# Altium footprint library Resistor_THT.PcbLib: 104 footprints (part 2 of 7)
Each footprint in its own frame and in the unit in brackets; x right, y up, seen from the top. Pads: shape width x height; smd on the part's side, far side on the other; paste and mask are expansions set on the pad; w line width, h text height; cw(c..) or ccw(c..) is an arc to the next point about the centre after c.
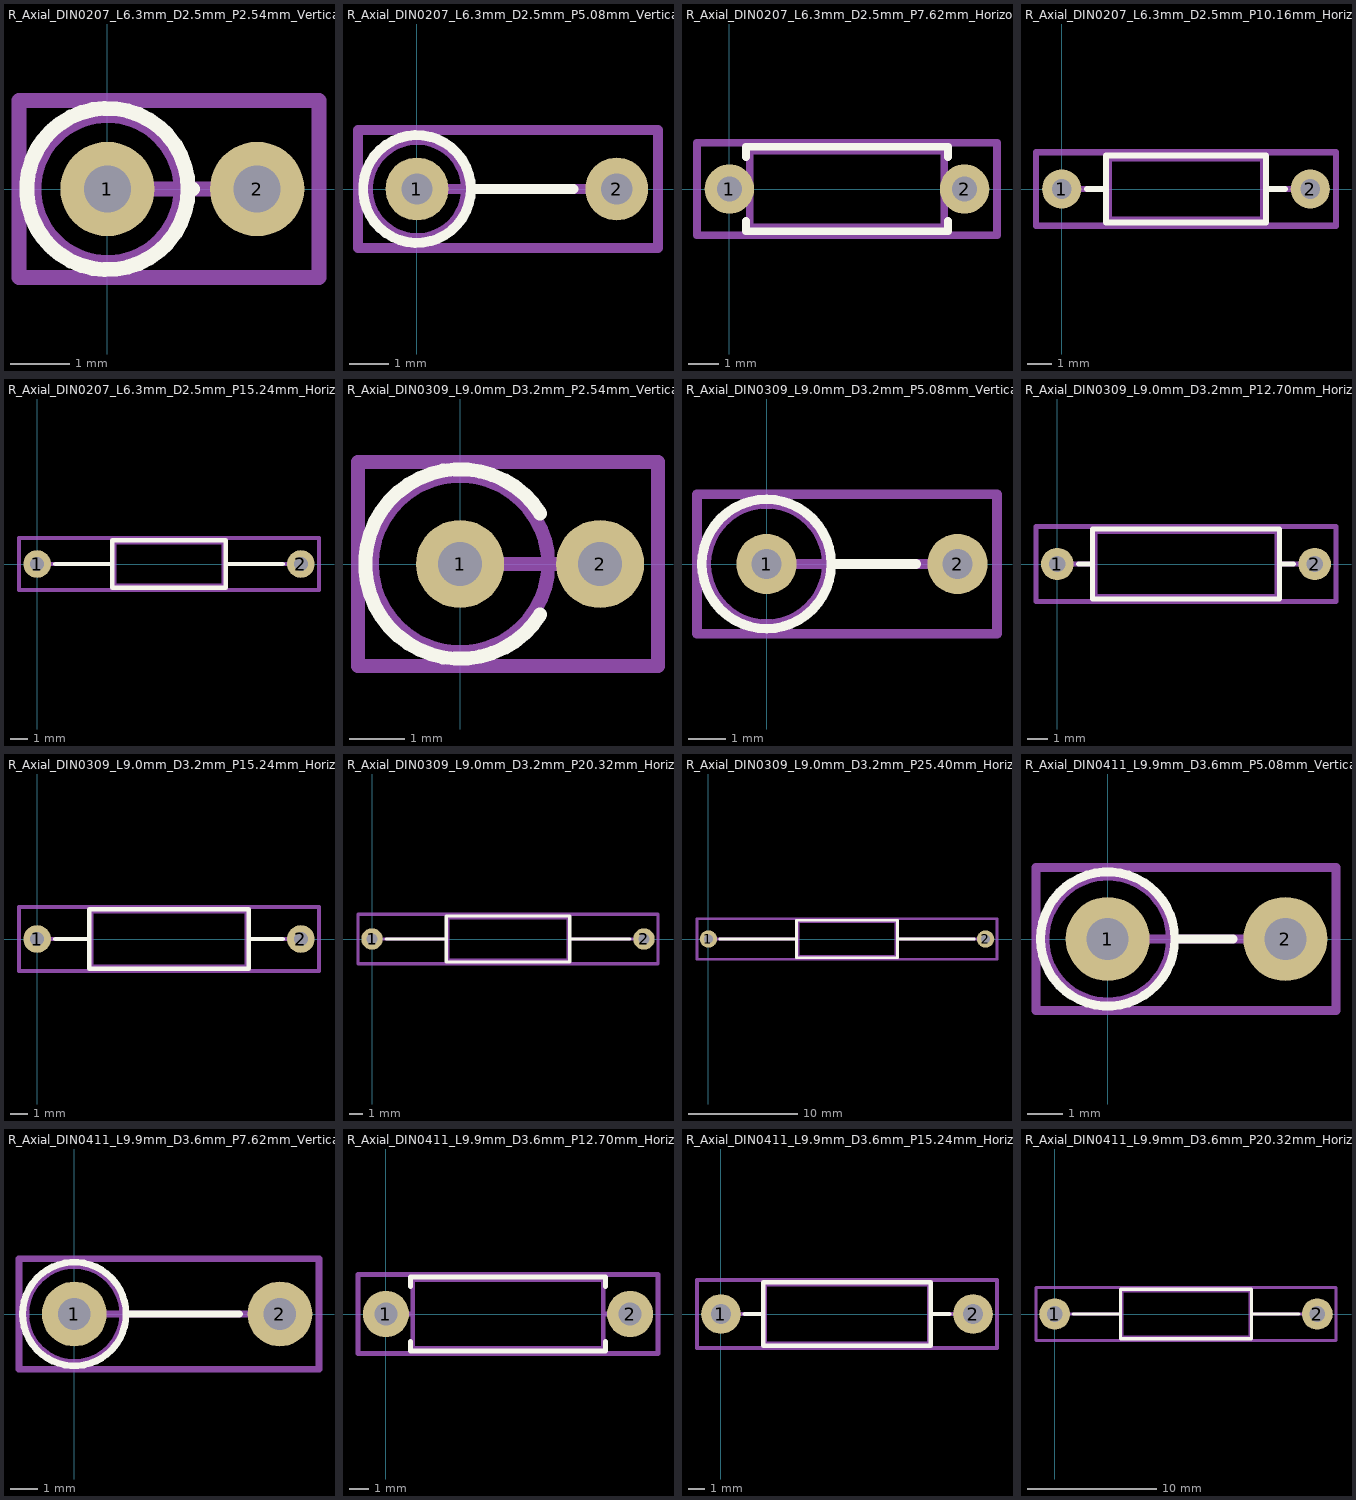
[diagram p1: the footprints below, top view; thin cyan lines are the x and y axes]

## R_Axial_DIN0207_L6.3mm_D2.5mm_P2.54mm_Vertical [mm]
pads (2):
  round 1.6 hole 0.8: 1(0,0) 2(2.54,0)
F.SilkS:
  circle w0.254: c0,0 r1.37
  lines w0.254: 1.37,0 1.44,0
F.Fab:
  circle w0.254: c0,0 r1.25
  lines w0.254: 0,0 2.54,0
  text "'.Designator'" at -2.777,1.53 h1
F.CrtYd:
  lines w0.254: -1.5,-1.5 -1.5,1.5 3.59,1.5 3.59,-1.5 -1.5,-1.5
3D body "R_Axial_DIN0207_L6.3mm_D2.5mm_P2.54mm_Vertical.step": height 9.5, standoff -3, extent -1.24,-1.248 2.838,1.248

## R_Axial_DIN0207_L6.3mm_D2.5mm_P5.08mm_Vertical [mm]
pads (2):
  round 1.6 hole 0.8: 1(0,0) 2(5.08,0)
F.SilkS:
  circle w0.254: c0,0 r1.37
  lines w0.254: 1.37,0 3.98,0
F.Fab:
  circle w0.254: c0,0 r1.25
  lines w0.254: 0,0 5.08,0
  text "'.Designator'" at -1.507,1.53 h1
F.CrtYd:
  lines w0.254: -1.5,-1.5 -1.5,1.5 6.13,1.5 6.13,-1.5 -1.5,-1.5
3D body "R_Axial_DIN0207_L6.3mm_D2.5mm_P5.08mm_Vertical.step": height 9.5, standoff -3, extent -1.24,-1.248 5.378,1.248

## R_Axial_DIN0207_L6.3mm_D2.5mm_P7.62mm_Horizontal [mm]
pads (2):
  round 1.6 hole 0.8: 1(0,0) 2(7.62,0)
F.SilkS:
  lines w0.254: 0.54,-1.04 0.54,-1.37 7.08,-1.37 7.08,-1.04 ; 0.54,1.04 0.54,1.37 7.08,1.37 7.08,1.04
F.Fab:
  lines w0.254: 0,0 0.66,0 ; 6.96,0 7.62,0 ; 0.66,-1.25 0.66,1.25 6.96,1.25 6.96,-1.25 0.66,-1.25
  text "'.Designator'" at -0.237,-0.84 h1
F.CrtYd:
  lines w0.254: -1.05,-1.5 -1.05,1.5 8.67,1.5 8.67,-1.5 -1.05,-1.5
3D body "R_Axial_DIN0207_L6.3mm_D2.5mm_P7.62mm_Horizontal.step": height 2.5, standoff -3, extent -0.298,-1.24 7.918,1.25

## R_Axial_DIN0207_L6.3mm_D2.5mm_P10.16mm_Horizontal [mm]
pads (2):
  round 1.6 hole 0.8: 1(0,0) 2(10.16,0)
F.SilkS:
  lines w0.254: 1.04,0 1.81,0 ; 8.35,0 9.12,0 ; 1.81,-1.37 1.81,1.37 8.35,1.37 8.35,-1.37 1.81,-1.37
F.Fab:
  lines w0.254: 0,0 1.93,0 ; 8.23,0 10.16,0 ; 1.93,-1.25 1.93,1.25 8.23,1.25 8.23,-1.25 1.93,-1.25
  text "'.Designator'" at 1.033,-0.84 h1
F.CrtYd:
  lines w0.254: -1.05,-1.5 -1.05,1.5 11.21,1.5 11.21,-1.5 -1.05,-1.5
3D body "R_Axial_DIN0207_L6.3mm_D2.5mm_P10.16mm_Horizontal.step": height 2.5, standoff -3, extent -0.298,-1.24 10.458,1.25

## R_Axial_DIN0207_L6.3mm_D2.5mm_P15.24mm_Horizontal [mm]
pads (2):
  round 1.6 hole 0.8: 1(0,0) 2(15.24,0)
F.SilkS:
  lines w0.254: 1.04,0 4.35,0 ; 10.89,0 14.2,0 ; 4.35,-1.37 4.35,1.37 10.89,1.37 10.89,-1.37 4.35,-1.37
F.Fab:
  lines w0.254: 0,0 4.47,0 ; 10.77,0 15.24,0 ; 4.47,-1.25 4.47,1.25 10.77,1.25 10.77,-1.25 4.47,-1.25
  text "'.Designator'" at 3.573,-0.84 h1
F.CrtYd:
  lines w0.254: -1.05,-1.5 -1.05,1.5 16.29,1.5 16.29,-1.5 -1.05,-1.5
3D body "R_Axial_DIN0207_L6.3mm_D2.5mm_P15.24mm_Horizontal.step": height 2.5, standoff -3, extent -0.298,-1.24 15.538,1.25

## R_Axial_DIN0309_L9.0mm_D3.2mm_P2.54mm_Vertical [mm]
pads (2):
  round 1.6 hole 0.8: 1(0,0) 2(2.54,0)
F.SilkS:
  lines w0.254: 1.453,-0.92 cw(c0,0) 1.453,0.92
F.Fab:
  circle w0.254: c0,0 r1.6
  lines w0.254: 0,0 2.54,0
  text "'.Designator'" at -2.777,1.88 h1
F.CrtYd:
  lines w0.254: -1.85,-1.85 -1.85,1.85 3.59,1.85 3.59,-1.85 -1.85,-1.85
3D body "R_Axial_DIN0309_L9.0mm_D3.2mm_P2.54mm_Vertical.step": height 12.4, standoff -3, extent -1.6,-1.597 2.887,1.597

## R_Axial_DIN0309_L9.0mm_D3.2mm_P5.08mm_Vertical [mm]
pads (2):
  round 1.6 hole 0.8: 1(0,0) 2(5.08,0)
F.SilkS:
  circle w0.254: c0,0 r1.72
  lines w0.254: 1.72,0 3.98,0
F.Fab:
  circle w0.254: c0,0 r1.6
  lines w0.254: 0,0 5.08,0
  text "'.Designator'" at -1.507,1.88 h1
F.CrtYd:
  lines w0.254: -1.85,-1.85 -1.85,1.85 6.13,1.85 6.13,-1.85 -1.85,-1.85
3D body "R_Axial_DIN0309_L9.0mm_D3.2mm_P5.08mm_Vertical.step": height 12.4, standoff -3, extent -1.6,-1.597 5.427,1.597

## R_Axial_DIN0309_L9.0mm_D3.2mm_P12.70mm_Horizontal [mm]
pads (2):
  round 1.6 hole 0.8: 1(0,0) 2(12.7,0)
F.SilkS:
  lines w0.254: 1.04,0 1.73,0 ; 10.97,0 11.66,0 ; 1.73,-1.72 1.73,1.72 10.97,1.72 10.97,-1.72 1.73,-1.72
F.Fab:
  lines w0.254: 0,0 1.85,0 ; 10.85,0 12.7,0 ; 1.85,-1.6 1.85,1.6 10.85,1.6 10.85,-1.6 1.85,-1.6
  text "'.Designator'" at 2.303,-0.84 h1
F.CrtYd:
  lines w0.254: -1.05,-1.85 -1.05,1.85 13.75,1.85 13.75,-1.85 -1.05,-1.85
3D body "R_Axial_DIN0309_L9.0mm_D3.2mm_P12.70mm_Horizontal.step": height 3.2, standoff -3, extent -0.347,-1.6 13.047,1.6

## R_Axial_DIN0309_L9.0mm_D3.2mm_P15.24mm_Horizontal [mm]
pads (2):
  round 1.6 hole 0.8: 1(0,0) 2(15.24,0)
F.SilkS:
  lines w0.254: 1.04,0 3,0 ; 12.24,0 14.2,0 ; 3,-1.72 3,1.72 12.24,1.72 12.24,-1.72 3,-1.72
F.Fab:
  lines w0.254: 0,0 3.12,0 ; 12.12,0 15.24,0 ; 3.12,-1.6 3.12,1.6 12.12,1.6 12.12,-1.6 3.12,-1.6
  text "'.Designator'" at 3.573,-0.84 h1
F.CrtYd:
  lines w0.254: -1.05,-1.85 -1.05,1.85 16.29,1.85 16.29,-1.85 -1.05,-1.85
3D body "R_Axial_DIN0309_L9.0mm_D3.2mm_P15.24mm_Horizontal.step": height 3.2, standoff -3, extent -0.347,-1.6 15.587,1.6

## R_Axial_DIN0309_L9.0mm_D3.2mm_P20.32mm_Horizontal [mm]
pads (2):
  round 1.6 hole 0.8: 1(0,0) 2(20.32,0)
F.SilkS:
  lines w0.254: 1.04,0 5.54,0 ; 14.78,0 19.28,0 ; 5.54,-1.72 5.54,1.72 14.78,1.72 14.78,-1.72 5.54,-1.72
F.Fab:
  lines w0.254: 0,0 5.66,0 ; 14.66,0 20.32,0 ; 5.66,-1.6 5.66,1.6 14.66,1.6 14.66,-1.6 5.66,-1.6
  text "'.Designator'" at 6.113,-0.84 h1
F.CrtYd:
  lines w0.254: -1.05,-1.85 -1.05,1.85 21.37,1.85 21.37,-1.85 -1.05,-1.85
3D body "R_Axial_DIN0309_L9.0mm_D3.2mm_P20.32mm_Horizontal.step": height 3.2, standoff -3, extent -0.347,-1.6 20.667,1.6

## R_Axial_DIN0309_L9.0mm_D3.2mm_P25.40mm_Horizontal [mm]
pads (2):
  round 1.6 hole 0.8: 1(0,0) 2(25.4,0)
F.SilkS:
  lines w0.254: 1.04,0 8.08,0 ; 17.32,0 24.36,0 ; 8.08,-1.72 8.08,1.72 17.32,1.72 17.32,-1.72 8.08,-1.72
F.Fab:
  lines w0.254: 0,0 8.2,0 ; 17.2,0 25.4,0 ; 8.2,-1.6 8.2,1.6 17.2,1.6 17.2,-1.6 8.2,-1.6
  text "'.Designator'" at 8.653,-0.84 h1
F.CrtYd:
  lines w0.254: -1.05,-1.85 -1.05,1.85 26.45,1.85 26.45,-1.85 -1.05,-1.85
3D body "R_Axial_DIN0309_L9.0mm_D3.2mm_P25.40mm_Horizontal.step": height 3.2, standoff -3, extent -0.347,-1.587 25.747,1.6

## R_Axial_DIN0411_L9.9mm_D3.6mm_P5.08mm_Vertical [mm]
pads (2):
  round 2.4 hole 1.2: 1(0,0) 2(5.08,0)
F.SilkS:
  circle w0.254: c0,0 r1.92
  lines w0.254: 1.92,0 3.58,0
F.Fab:
  circle w0.254: c0,0 r1.8
  lines w0.254: 0,0 5.08,0
  text "'.Designator'" at -1.507,2.08 h1
F.CrtYd:
  lines w0.254: -2.05,-2.05 -2.05,2.05 6.53,2.05 6.53,-2.05 -2.05,-2.05
3D body "R_Axial_DIN0411_L9.9mm_D3.6mm_P5.08mm_Vertical.step": height 13.5, standoff -3, extent -1.8,-1.8 5.477,1.8

## R_Axial_DIN0411_L9.9mm_D3.6mm_P7.62mm_Vertical [mm]
pads (2):
  round 2.4 hole 1.2: 1(0,0) 2(7.62,0)
F.SilkS:
  circle w0.254: c0,0 r1.92
  lines w0.254: 1.92,0 6.12,0
F.Fab:
  circle w0.254: c0,0 r1.8
  lines w0.254: 0,0 7.62,0
  text "'.Designator'" at -0.237,2.08 h1
F.CrtYd:
  lines w0.254: -2.05,-2.05 -2.05,2.05 9.07,2.05 9.07,-2.05 -2.05,-2.05
3D body "R_Axial_DIN0411_L9.9mm_D3.6mm_P7.62mm_Vertical.step": height 13.5, standoff -3, extent -1.8,-1.8 8.017,1.8

## R_Axial_DIN0411_L9.9mm_D3.6mm_P12.70mm_Horizontal [mm]
pads (2):
  round 2.4 hole 1.2: 1(0,0) 2(12.7,0)
F.SilkS:
  lines w0.254: 1.28,-1.44 1.28,-1.92 11.42,-1.92 11.42,-1.44 ; 1.28,1.44 1.28,1.92 11.42,1.92 11.42,1.44
F.Fab:
  lines w0.254: 0,0 1.4,0 ; 11.3,0 12.7,0 ; 1.4,-1.8 1.4,1.8 11.3,1.8 11.3,-1.8 1.4,-1.8
  text "'.Designator'" at 2.303,-0.84 h1
F.CrtYd:
  lines w0.254: -1.45,-2.05 -1.45,2.05 14.15,2.05 14.15,-2.05 -1.45,-2.05
3D body "R_Axial_DIN0411_L9.9mm_D3.6mm_P12.70mm_Horizontal.step": height 3.6, standoff -3, extent -0.397,-1.8 13.097,1.8

## R_Axial_DIN0411_L9.9mm_D3.6mm_P15.24mm_Horizontal [mm]
pads (2):
  round 2.4 hole 1.2: 1(0,0) 2(15.24,0)
F.SilkS:
  lines w0.254: 1.44,0 2.55,0 ; 12.69,0 13.8,0 ; 2.55,-1.92 2.55,1.92 12.69,1.92 12.69,-1.92 2.55,-1.92
F.Fab:
  lines w0.254: 0,0 2.67,0 ; 12.57,0 15.24,0 ; 2.67,-1.8 2.67,1.8 12.57,1.8 12.57,-1.8 2.67,-1.8
  text "'.Designator'" at 3.573,-0.84 h1
F.CrtYd:
  lines w0.254: -1.45,-2.05 -1.45,2.05 16.69,2.05 16.69,-2.05 -1.45,-2.05
3D body "R_Axial_DIN0411_L9.9mm_D3.6mm_P15.24mm_Horizontal.step": height 3.6, standoff -3, extent -0.397,-1.8 15.637,1.8

## R_Axial_DIN0411_L9.9mm_D3.6mm_P20.32mm_Horizontal [mm]
pads (2):
  round 2.4 hole 1.2: 1(0,0) 2(20.32,0)
F.SilkS:
  lines w0.254: 1.44,0 5.09,0 ; 15.23,0 18.88,0 ; 5.09,-1.92 5.09,1.92 15.23,1.92 15.23,-1.92 5.09,-1.92
F.Fab:
  lines w0.254: 0,0 5.21,0 ; 15.11,0 20.32,0 ; 5.21,-1.8 5.21,1.8 15.11,1.8 15.11,-1.8 5.21,-1.8
  text "'.Designator'" at 6.113,-0.84 h1
F.CrtYd:
  lines w0.254: -1.45,-2.05 -1.45,2.05 21.77,2.05 21.77,-2.05 -1.45,-2.05
3D body "R_Axial_DIN0411_L9.9mm_D3.6mm_P20.32mm_Horizontal.step": height 3.6, standoff -3, extent -0.397,-1.8 20.717,1.8